# Altium footprint library 18650 SMD.PcbLib: 1 footprints
Each footprint in its own frame and in the unit in brackets; x right, y up, seen from the top. Pads: shape width x height; smd on the part's side, far side on the other; paste and mask are expansions set on the pad; w line width, h text height; cw(c..) or ccw(c..) is an arc to the next point about the centre after c.
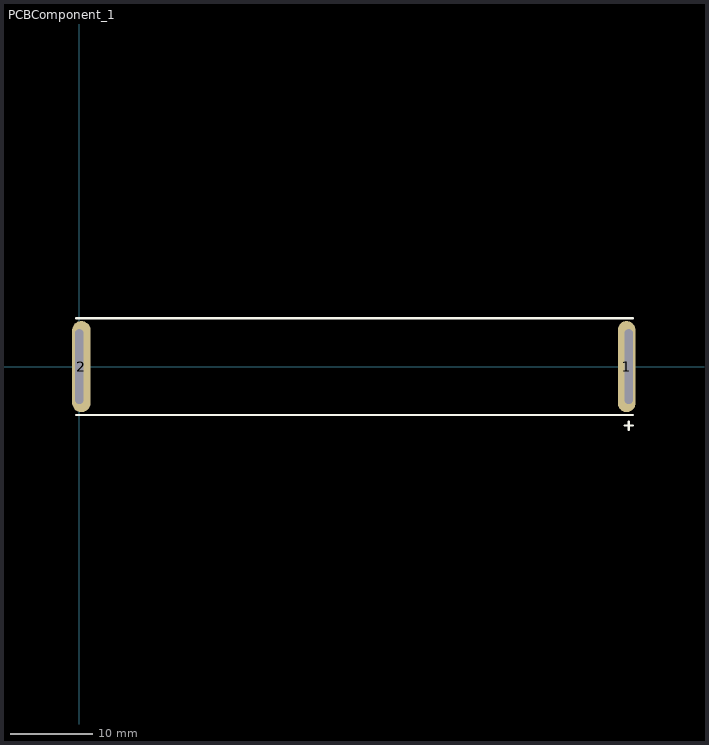
[diagram p0: the footprint, top view; thin cyan lines are the x and y axes]

## PCBComponent_1 [mm]
pads (4):
  rrect100% 2.125x11 / inner rrect25% 0x0 / far side rrect0% 0x0 all layers, no hole: 1(66.04,0)
  rrect0% 0x0 / inner rrect0% 0x0 / far side rrect25% 9x11 hole 9 slot 1 at 0 deg copper offset -3.5,0: 1(66.294,0)
  rrect25% 0x0 / inner rrect25% 0x0 / far side rrect25% 9x11 hole 9 slot 1 at 0 deg copper offset 3.5,0: 2(0,0)
  rrect100% 2.25x11 / inner rrect25% 0x0 / far side rrect0% 0x0 all layers, no hole: 2(0.254,0)
Top Overlay:
  lines w0.254: -0.381,-5.842 66.802,-5.842 ; -0.381,5.842 66.802,5.842 ; 65.786,-7.112 66.802,-7.112 ; 66.294,-7.62 66.294,-6.604
3D body "Samsung 30Q 18650 Battery.STEP": height 18.6, standoff 0.2, extent 0.635,-9.2 65.635,9.2